# Altium schematic symbol library 74AHC1G79GW.SchLib: 1 symbol
Pins are listed as number, name and electrical type; pins without a type are passive.

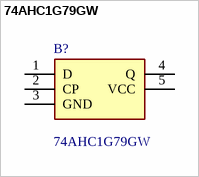
[diagram p0: symbol 74AHC1G79GW]

## 74AHC1G79GW
designator B?
NXP 74AHC1G79GW, Flip Flop IC, Single Ended, 2  5.5 V, 5-Pin TSSOP; Manufacturer_Name: Nexperia; Geometry.Height: 1.1mm; Manufacturer_Part_Number: 74AHC1G79GW; Mouser Part Number: N/A; Mouser Price/Stock: https://www.mouser.com/Search/Refine.aspx?Keyword=N%2FA; Arrow Part Number: *; Arrow Price/Stock: *; Datasheet Link: https://datasheet.datasheetarchive.com/originals/distributors/Datasheets-301/11791.pdf
footprint SOT65P212X110-5N
pins: 1 D, 2 CP, 3 GND, 4 Q, 5 VCC